# EAGLE library part LT8640 (library linear)
Linear LT8640 Buck converter Datasheet <https://cds.linear.com/docs/en/datasheet/8640fa.pdf>
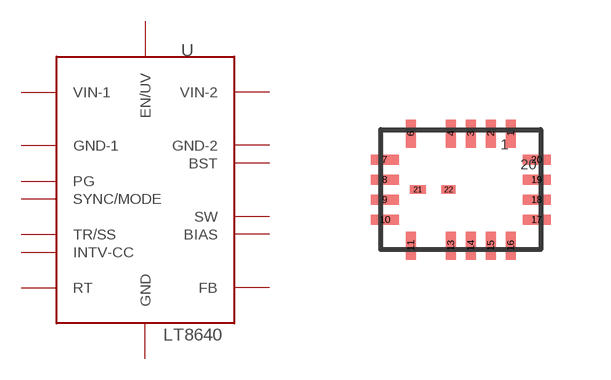
[diagram p320: symbol with the pads of QFN18-3X4; footprint QFN18-3X4]

Designator prefix -

## LT8640  [QFN18-3X4]
1  BIAS
2  INTV-CC
3  BST
4  VIN-1
6  GND-1
7  GND-1
8  SW
9  SW
10  GND-2
11  GND-2
13  VIN-2
14  EN/UV
15  RT
16  TR/SS
17  SYNC/MODE
18  GND
19  PG
20  FB
21  SW
22  SW

## Footprint QFN18-3X4 (pad centres in mm)
smd 0.25 x 0.7: 1 1.25,1.4; 2 0.75,1.4; 3 0.25,1.4; 4 -0.25,1.4; 6 -1.25,1.4; 11 -1.25,-1.4; 13 -0.25,-1.4; 14 0.25,-1.4; 15 0.75,-1.4; 16 1.25,-1.4
smd 0.7 x 0.25: 7 -1.9,0.75; 8 -1.9,0.25; 9 -1.9,-0.25; 10 -1.9,-0.75; 17 1.9,-0.75; 18 1.9,-0.25; 19 1.9,0.25; 20 1.9,0.75
smd 0.4 x 0.22: 21 -1.075,0
smd 0.356 x 0.22: 22 -0.305,0